# EAGLE library part TLP292-4 (library collin)
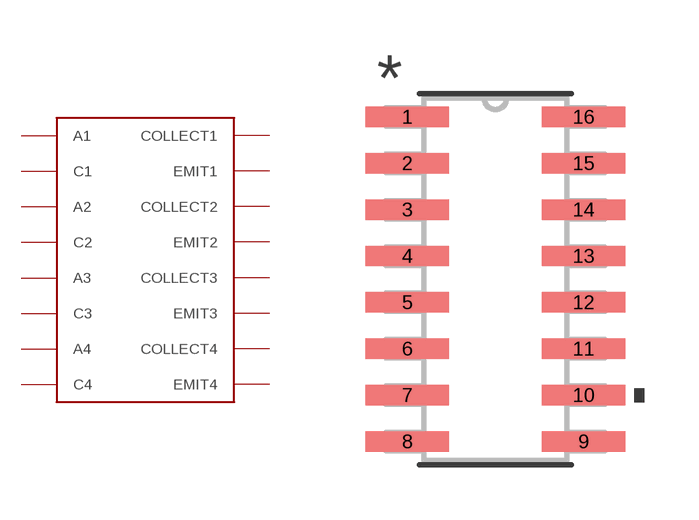
[diagram p17: symbol with the pads of SOIC16-N_MC_MCH-M; footprint SOIC16-N_MC_MCH-M]

Designator prefix -

## TLP292-4  [SOIC16-N_MC_MCH-M]
1  A1
2  C1
3  A2
4  C2
5  A3
6  C3
7  A4
8  C4
9  EMIT4
10  COLLECT4
11  EMIT3
12  COLLECT3
13  EMIT2
14  COLLECT2
15  EMIT1
16  COLLECT1

## Footprint SOIC16-N_MC_MCH-M (pad centres in mm)
smd 2.286 x 0.559: 1 -2.413,4.445; 2 -2.413,3.175; 3 -2.413,1.905; 4 -2.413,0.635; 5 -2.413,-0.635; 6 -2.413,-1.905; 7 -2.413,-3.175; 8 -2.413,-4.445; 9 2.413,-4.445; 10 2.413,-3.175; 11 2.413,-1.905; 12 2.413,-0.635; 13 2.413,0.635; 14 2.413,1.905; 15 2.413,3.175; 16 2.413,4.445